# Altium footprint library 7-5530843-7.PcbLib: 1 footprints
Each footprint in its own frame and in the unit in brackets; x right, y up, seen from the top. Pads: shape width x height; smd on the part's side, far side on the other; paste and mask are expansions set on the pad; w line width, h text height; cw(c..) or ccw(c..) is an arc to the next point about the centre after c.
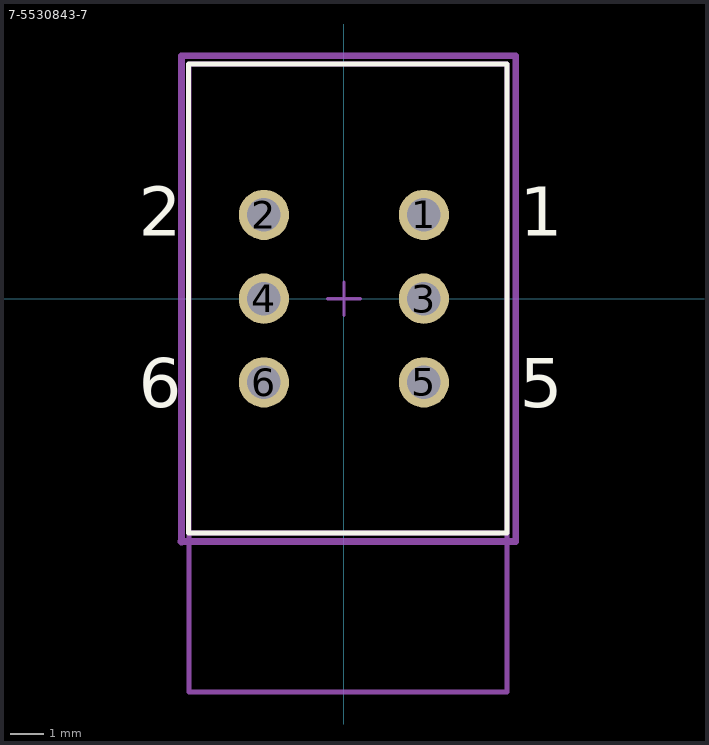
[diagram p0: the footprint, top view; thin cyan lines are the x and y axes]

## 7-5530843-7 [mil]
pads (6):
  round 60 hole 40 mask+2.76: 1(95.5,100) 2(-95.5,100) 3(95.5,0) 4(-95.5,0) 5(95.5,-100) 6(-95.5,-100)
Top Overlay:
  lines w5.91: -185.5,-280 -185.5,280 79.5,280 194.5,280 194.5,-280 -185,-280
  text "1" at 210,75 h59.06
  text "2" at -245,75 h59.06
  text "6" at -245,-130 h59.06
  text "5" at 210,-130 h59.06
Mechanical 13:
  lines w5.91: -185,-280 185,-280 ; -185,-470 -185,280 195,280 195,-470 -185,-470
Mechanical 15:
  lines w3.94: -19.68,0 19.68,0 ; 0,-19.68 0,19.68
  lines w7.87: -195,-290 205,-290 205,290 ; -193.94,-291.06 -193.94,254.27 -193.94,290 205.39,290
3D body "c-7-5530843-7-f-3d.stp": height 610, standoff -125, extent -183.5,-469.99 189.5,280.01